# Altium footprint library Conectors.PcbLib: 137 footprints (part 3 of 9)
Each footprint in its own frame and in the unit in brackets; x right, y up, seen from the top. Pads: shape width x height; smd on the part's side, far side on the other; paste and mask are expansions set on the pad; w line width, h text height; cw(c..) or ccw(c..) is an arc to the next point about the centre after c.
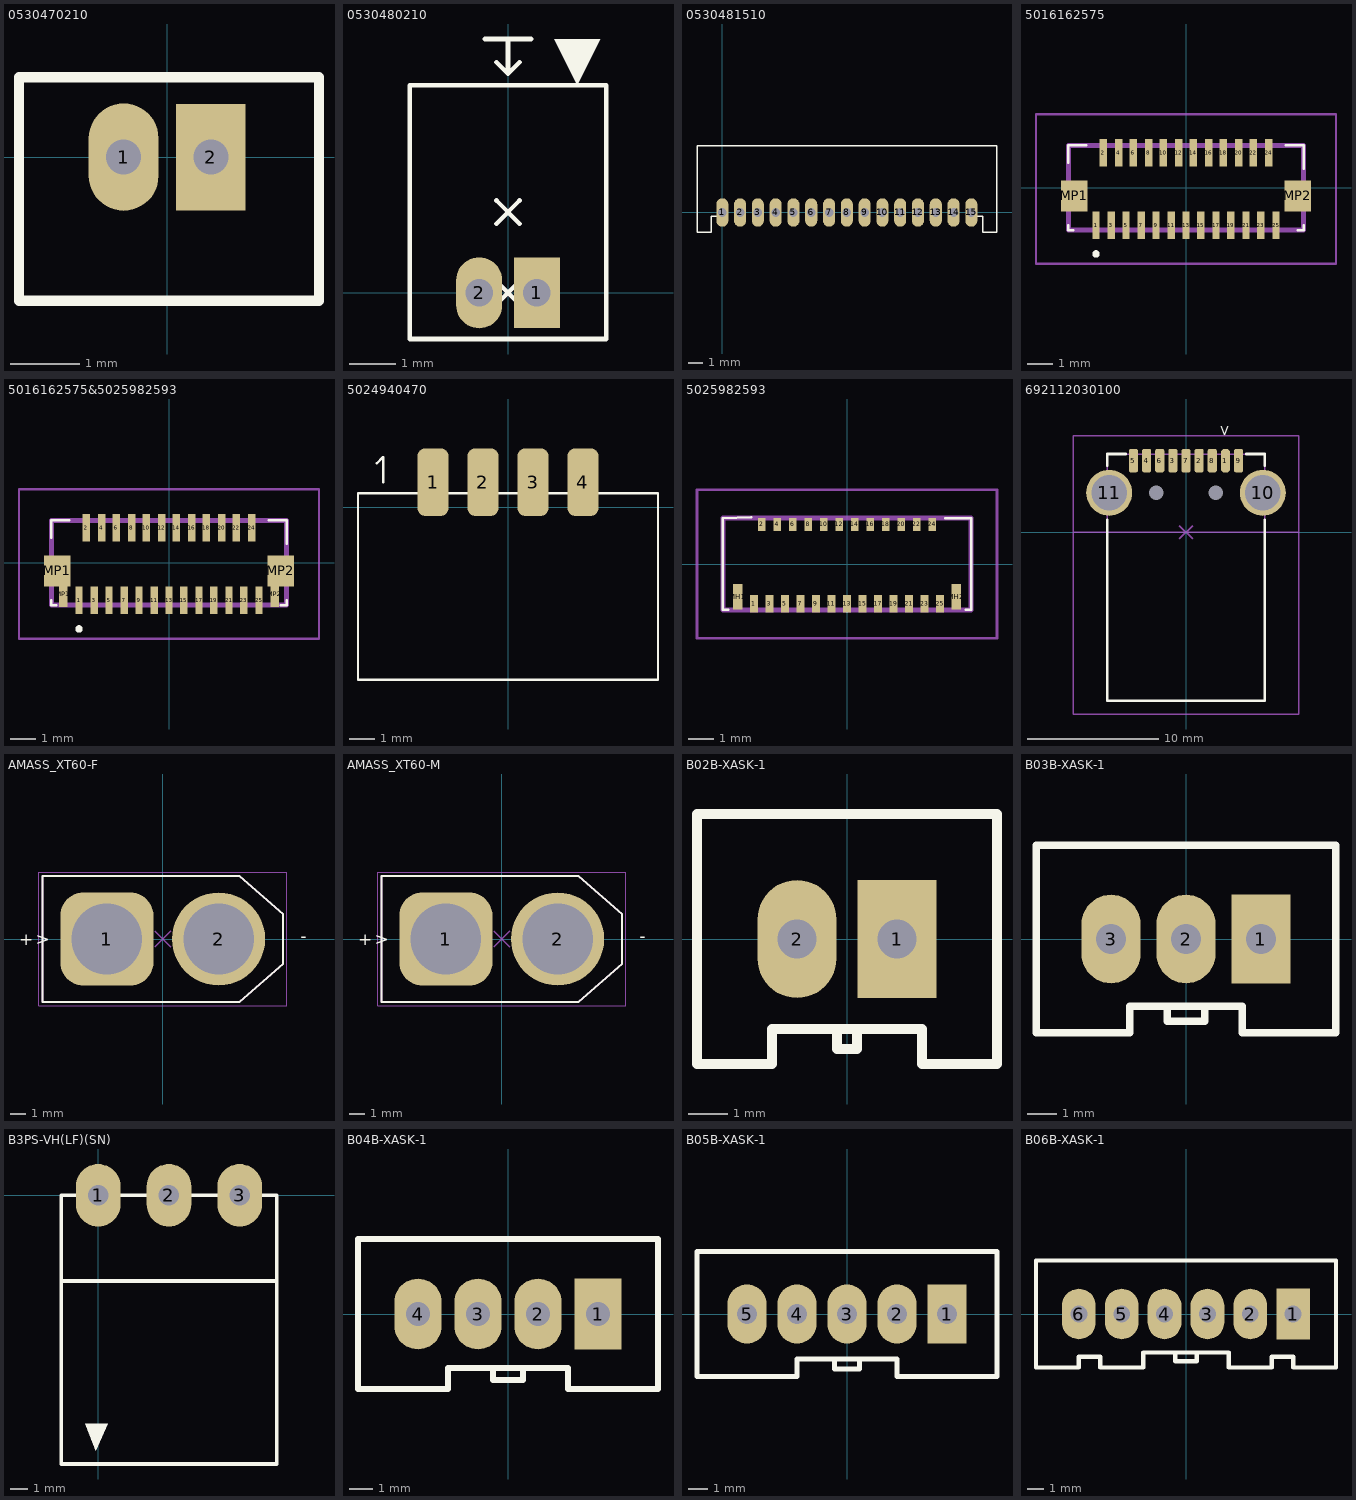
[diagram p2: the footprints below, top view; thin cyan lines are the x and y axes]

## 0530470210 [mm]
pads (2):
  oval 1x1.54 hole 0.5: 1(-0.625,0)
  rect 1x1.524 hole 0.5: 2(0.625,0)
Top Overlay:
  lines w0.15: -2.125,-2.057 -2.125,1.143 2.175,1.143 2.175,-2.057 -2.125,-2.057
3D body "530470210.stp": height 4.18, standoff -2.32, extent -2.099,-2.057 2.151,1.143

## 0530480210 [mm] "CONN HEADER R/A 2POS 1.25MM"
height 3.5
pads (2):
  rect 1x1.524 hole 0.6: 1(0.625,0)
  oval 1x1.54 hole 0.6: 2(-0.625,0)
Top Overlay:
  region: 1,5.5 2,5.5 1.5,4.5
  lines w0.1: -0.5,5.5 0.5,5.5 ; -0.25,-0.25 0.25,0.25 ; -0.25,0.25 0.25,-0.25 ; -0.25,1.5 0.25,2 ; -0.25,2 0.25,1.5 ; -0.25,5 0,4.75 ; 0,5.5 0,4.75 ; 0.25,5 0,4.75 ; -2.125,-1 -2.125,4.5 2.125,4.5 2.125,-1 -2.125,-1
3D body "530480210.stp": height 3.35, standoff -2.45, extent -2.125,-1.016 2.125,4.484

## 0530481510 [mm]
pads (15):
  oval 0.85x2 hole 0.6: 1(0,0) 2(1.25,0) 3(2.5,0) 4(3.75,0) 5(5,0) 6(6.25,0) 7(7.5,0) 8(8.75,0) 9(10,0) 10(11.25,0) 11(12.5,0) 12(13.75,0) 13(15,0) 14(16.25,0) 15(17.5,0)
Top Overlay:
  lines w0.1: -0.381,-0.254 -0.762,-0.254 -0.762,-1.397 -1.778,-1.397 -1.778,4.699 19.304,4.699 19.304,-1.397 18.288,-1.397 18.288,-0.254 17.907,-0.254
3D body "530481510.stp": height 3.6, standoff -2.2, extent -1.506,-1.106 18.994,4.394

## 5016162575 [mm]
pads (27):
  rect 0.3x1.1 smd: 1(-3.6,-1.5) 2(-3.3,1.4) 3(-3,-1.5) 4(-2.7,1.4) 5(-2.4,-1.5) 6(-2.1,1.4) 7(-1.8,-1.5) 8(-1.5,1.4) 9(-1.2,-1.5) 10(-0.9,1.4) 11(-0.6,-1.5) 12(-0.3,1.4) 13(0,-1.5) 14(0.3,1.4) 15(0.6,-1.5) 16(0.9,1.4) 17(1.2,-1.5) 18(1.5,1.4) 19(1.8,-1.5) 20(2.1,1.4) 21(2.4,-1.5) 22(2.7,1.4) 23(3,-1.5) 24(3.3,1.4) 25(3.6,-1.5)
  rect 1.05x1.25 smd: MP1(-4.475,-0.325) MP2(4.475,-0.325)
Top Overlay:
  lines w0.1: -4.7,-1.7 -4.5,-1.7 -4.7,-1.7 ; -4.7,-1.7 -4.7,-1.5 -4.7,-1.7 ; -4.7,1.7 -4.7,1 -4.7,1.7 ; -4.7,1.7 -4,1.7 -4.7,1.7 ; 4.7,-1.7 4.7,-1.5 4.7,-1.7 ; 4.7,-1.7 4.475,-1.7 4.7,-1.7 ; 4.7,1.7 4.7,0.75 4.7,1.7 ; 4.7,1.7 4,1.7 4.7,1.7
  lines w0.2: -3.6,-2.7 cw(c-3.6,-2.65) -3.6,-2.6 ; -3.6,-2.7 ccw(c-3.6,-2.65) -3.6,-2.6 ; -3.6,-2.7 cw(c-3.6,-2.65) -3.6,-2.6
Mechanical 13:
  lines w0.2: -4.7,-1.7 -4.7,1.7 4.7,1.7 4.7,-1.7 -4.7,-1.7
Mechanical 15:
  lines w0.1: -6,-3.05 -6,2.95 6,2.95 6,-3.05 -6,-3.05
3D body "5016162575.stp": height 1.92, standoff 0, extent -4.895,-2.02 4.895,1.92

## 5016162575&5025982593 [mm]
pads (29):
  rect 0.3x1.1 smd: 1(-3.6,-1.5) 2(-3.3,1.4) 3(-3,-1.5) 4(-2.7,1.4) 5(-2.4,-1.5) 6(-2.1,1.4) 7(-1.8,-1.5) 8(-1.5,1.4) 9(-1.2,-1.5) 10(-0.9,1.4) 11(-0.6,-1.5) 12(-0.3,1.4) 13(0,-1.5) 14(0.3,1.4) 15(0.6,-1.5) 16(0.9,1.4) 17(1.2,-1.5) 18(1.5,1.4) 19(1.8,-1.5) 20(2.1,1.4) 21(2.4,-1.5) 22(2.7,1.4) 23(3,-1.5) 24(3.3,1.4) 25(3.6,-1.5)
  rect 1.05x1.25 smd: MP1(-4.475,-0.325) MP2(4.475,-0.325)
  rect 0.35x1 smd: MP1(-4.225,-1.267) MP2(4.225,-1.267)
Top Overlay:
  lines w0.1: -4.7,-1.7 -4.7,-1.5 -4.7,-1.7 ; -4.7,-1.7 -4.5,-1.7 -4.7,-1.7 ; -4.7,1.7 -4,1.7 -4.7,1.7 ; -4.7,1.7 -4.7,1 -4.7,1.7 ; 4.7,-1.7 4.475,-1.7 4.7,-1.7 ; 4.7,-1.7 4.7,-1.5 4.7,-1.7 ; 4.7,1.7 4,1.7 4.7,1.7 ; 4.7,1.7 4.7,0.75 4.7,1.7
  lines w0.2: -3.6,-2.7 cw(c-3.6,-2.65) -3.6,-2.6 ; -3.6,-2.7 ccw(c-3.6,-2.65) -3.6,-2.6 ; -3.6,-2.7 cw(c-3.6,-2.65) -3.6,-2.6
Mechanical 13:
  lines w0.2: -4.7,-1.7 4.7,-1.7 4.7,1.7 -4.7,1.7 -4.7,-1.7
Mechanical 15:
  lines w0.1: -6,-3.05 6,-3.05 6,2.95 -6,2.95 -6,-3.05
3D body "5016162575.stp": height 1.92, standoff 0, extent -4.895,-2.02 4.895,1.92

## 5024940470 [mm]
pads (4):
  rrect50% 1.25x2.7 smd: 1(-3,1) 2(-1,1) 3(1,1) 4(3,1)
Top Overlay:
  lines w0.1: -5.25,1.75 -5,2 -5,1 ; -6,-6.9 6,-6.9 6,0.55 -6,0.55 -6,-6.9
3D body "5024940470.stp": height 6.8, standoff -0.1, extent -6,-6.925 6,1.575

## 5025982593 [mm]
pads (27):
  rect 0.3x0.67 smd: 1(-3.6,-1.532) 3(-3,-1.532) 5(-2.4,-1.532) 7(-1.8,-1.532) 9(-1.2,-1.532) 11(-0.6,-1.532) 13(0,-1.532) 15(0.6,-1.532) 17(1.2,-1.532) 19(1.8,-1.532) 21(2.4,-1.532) 23(3,-1.532) 25(3.6,-1.532)
  rect 0.3x0.5 smd: 2(-3.3,1.533) 4(-2.7,1.533) 6(-2.1,1.533) 8(-1.5,1.533) 10(-0.9,1.533) 12(-0.3,1.533) 14(0.3,1.533) 16(0.9,1.533) 18(1.5,1.533) 20(2.1,1.533) 22(2.7,1.533) 24(3.3,1.533)
  rect 0.35x1 smd: MH1(-4.225,-1.267) MH2(4.225,-1.267)
Top Overlay:
  lines w0.1: -4.6,-1.774 -4.8,-1.774 -4.8,1.776 -3.7,1.801 ; 3.8,1.776 4.8,1.776 4.8,-1.699 4.8,-1.774 4.6,-1.774
Mechanical 13:
  lines w0.2: -4.8,-1.774 4.8,-1.774 4.8,1.776 -4.8,1.776 -4.8,-1.774
Mechanical 15:
  lines w0.1: -5.8,-2.873 5.8,-2.873 5.8,2.873 -5.8,2.873 -5.8,-2.873
3D body "502598-2593.stp": height 1.15, standoff 0, extent -4.8,-1.905 4.8,1.895

## 692112030100 [mm]
pads (13):
  oct 0.7x1.8 smd: 1(3,5.45)
  rrect50% 0.7x1.8 smd: 2(1,5.45) 3(-1,5.45) 4(-3,5.45) 5(-4,5.45) 6(-2,5.45) 7(0,5.45) 8(2,5.45) 9(4,5.45)
  round 3.5 hole 2.69: 10(5.85,3) 11(-5.85,3)
  round 0.55 hole 1.1 unplated: 12(2.25,3) 13(-2.25,3)
Top Overlay:
  lines w0.2: -6,0.95 -6,-12.85 6,-12.85 6,0.95 ; -6,5.05 -6,5.95 -4.6,5.95 ; 4.6,5.95 6,5.95 6,5.05
  text ">" at 2.6,8.2 h0.8
  text ".Silk" at 3.167,9.927 h3
Mechanical 13:
  lines w0.1: -6,-12.85 6,-12.85 6,5.95 -6,5.95 -6,-12.85
Mechanical 15:
  lines w0.1: -0.5,-0.5 0.5,0.5 ; -0.5,0.5 0.5,-0.5 ; -8.6,7.35 8.6,7.35 ; -8.6,7.35 -8.6,-13.85 8.6,-13.85 8.6,7.35 ; -8.6,7.35 8.6,7.35 ; -8.6,7.35 -8.6,0 8.6,0 8.6,7.35
3D body "692112030100.stp": height 1.85, standoff -2.65, extent -6,-14.768 6,5.982

## AMASS_XT60-F [mm]
height 16
pads (2):
  rrect50% 6x6 / inner round 6 / far side rrect50% 6x6 hole 4.55: 1(-3.6,0)
  round 6 hole 4.55: 2(3.6,0)
Top Overlay:
  lines w0.127: -7.75,-4.05 4.95,-4.05 7.75,-1.6 7.75,1.6 4.95,4.05 -7.75,4.05 -7.75,-4.05
  text "-" at 9.267,0.4 h0.8
  text "+" at -9.267,-0.4 h0.8
  text ".Silk" at -2.167,4.573 h3
  text ">" at -8.2,-0.4 h0.8
Mechanical 13:
  lines w0.127: -7.75,-4.05 4.95,-4.05 7.75,-1.6 7.75,1.6 4.95,4.05 -7.75,4.05 -7.75,-4.05
Mechanical 15:
  lines w0.05: -8,-4.3 -8,4.3 8,4.3 8,-4.3 -8,-4.3
  lines w0.1: -0.5,-0.5 0.5,0.5 ; -0.5,0.5 0.5,-0.5
3D body "XT60-F--3DModel-STEP-510211.STEP": height 16.8, standoff -4.5, extent -8,-4.05 8,4.05

## AMASS_XT60-M [mm]
height 16
pads (2):
  rrect50% 6x6 / inner round 6 / far side rrect50% 6x6 hole 4.55: 1(-3.6,0)
  round 6 hole 4.55: 2(3.6,0)
Top Overlay:
  lines w0.127: -7.75,-4.05 -7.75,4.05 4.95,4.05 7.75,1.6 7.75,-1.6 4.95,-4.05 -7.75,-4.05
  text ">" at -8.2,-0.4 h0.8
  text ".Silk" at -2.167,4.573 h3
  text "+" at -9.267,-0.4 h0.8
  text "-" at 9.267,0.4 h0.8
Mechanical 13:
  lines w0.127: -7.75,-4.05 -7.75,4.05 4.95,4.05 7.75,1.6 7.75,-1.6 4.95,-4.05 -7.75,-4.05
Mechanical 15:
  lines w0.05: -8,-4.3 8,-4.3 8,4.3 -8,4.3 -8,-4.3
  lines w0.1: -0.5,-0.5 0.5,0.5 ; -0.5,0.5 0.5,-0.5
3D body "step_temp.STEP": height 16, standoff -4.5, extent -7.75,-4.05 7.75,4.05

## B02B-XASK-1 [mm] "CONN HEADER XA 2POS 2.5MM TIN"
height 11.3
pads (2):
  rect 2x3 hole 1: 1(1.27,0)
  oval 2x3 hole 1: 2(-1.27,0)
Top Overlay:
  lines w0.254: -0.254,-2.286 -0.254,-2.794 0,-2.794 0.254,-2.794 0.254,-2.286 ; -3.81,-3.175 -1.905,-3.175 -1.905,-2.286 1.905,-2.286 1.905,-3.175 3.81,-3.175 3.81,3.175 -3.81,3.175 -3.81,-3.175
3D body "User Library-B02B-XASK-1.step": height 8.8, standoff -3.4, extent -3.75,-3.2 3.75,3.2

## B03B-XASK-1 [mm] "CONN HEADER XA 3POS 2.5MM TIN"
height 11.3
pads (3):
  rect 2x3 hole 1: 1(2.54,0)
  oval 2x3 hole 1: 2(0,0) 3(-2.54,0)
Top Overlay:
  lines w0.254: -0.635,-2.286 -0.635,-2.794 0,-2.794 0.635,-2.794 0.635,-2.286 ; -5.08,-3.175 -1.905,-3.175 -1.905,-2.286 1.905,-2.286 1.905,-3.175 5.08,-3.175 5.08,3.175 -5.08,3.175 -5.08,-3.175
3D body "User Library-B03B-XASK-1-1.step": height 8.8, standoff -3.4, extent -5,-3.2 5,3.2

## B3PS-VH(LF)(SN) [mm]
pads (3):
  oval 2.5x3.5 hole 1.15: 1(0,0) 2(3.96,0) 3(7.92,0)
Top Overlay:
  region: 0.525,-12.8 -0.725,-12.8 -0.125,-14.3
  lines w0.2: -2.065,-14.96 -2.065,-4.8 10,-4.8 10,-14.96 ; -2.073,-15.04 9.992,-15.04 ; -2.073,-15.04 9.992,-15.04 ; -2.073,-15.04 -2.073,0 9.992,0 9.992,-15.04
3D body "User Library-B3PS-VH.STEP": height 8.65, standoff -3.75, extent -1.95,-14.9 9.87,0.57

## B04B-XASK-1 [mm] "CONN HEADER XA 4POS 2.5MM TIN"
height 11.3
pads (4):
  rect 2x3 hole 1: 1(3.81,0)
  oval 2x3 hole 1: 2(1.27,0) 3(-1.27,0) 4(-3.81,0)
Top Overlay:
  lines w0.254: -0.635,-2.286 -0.635,-2.794 0,-2.794 0.635,-2.794 0.635,-2.286 ; -6.35,-3.175 -2.54,-3.175 -2.54,-2.286 2.54,-2.286 2.54,-3.175 6.35,-3.175 6.35,3.175 -6.35,3.175 -6.35,-3.175
3D body "User Library-B04B-XASK-1-1.step": height 8.8, standoff -3.4, extent -6.25,-3.2 6.25,3.2

## B05B-XASK-1 [mm] "CONN HEADER XA 5POS 2.5MM TIN"
height 11.3
pads (5):
  rect 2x3 hole 1: 1(5.08,0)
  oval 2x3 hole 1: 2(2.54,0) 3(0,0) 4(-2.54,0) 5(-5.08,0)
Top Overlay:
  lines w0.254: -0.635,-2.286 -0.635,-2.794 0,-2.794 0.635,-2.794 0.635,-2.286 ; -7.62,-3.175 -7.62,3.175 7.62,3.175 7.62,-3.175 2.54,-3.175 2.54,-2.286 -2.54,-2.286 -2.54,-3.175 -7.62,-3.175
3D body "User Library-B05B-XASK-1-1.step": height 8.8, standoff -3.4, extent -7.5,-3.2 7.5,3.2

## B06B-XASK-1 [mm] "CONN HEADER XA 6POS 2.5MM TIN"
height 11.3
pads (6):
  rect 2x3 hole 1: 1(6.35,0)
  oval 2x3 hole 1: 2(3.81,0) 3(1.27,0) 4(-1.27,0) 5(-3.81,0) 6(-6.35,0)
Top Overlay:
  lines w0.254: -0.635,-2.286 -0.635,-2.794 0,-2.794 0.635,-2.794 0.635,-2.286 ; -8.89,-3.175 -6.35,-3.175 -6.35,-2.54 -5.08,-2.54 -5.08,-3.175 -2.54,-3.175 -2.54,-2.286 2.54,-2.286 2.54,-3.175 5.08,-3.175 5.08,-2.54 6.35,-2.54 6.35,-3.175 8.89,-3.175 8.89,3.175 -8.89,3.175 -8.89,-3.175
3D body "User Library-B06B-XASK-1-1.step": height 8.8, standoff -3.4, extent -8.75,-3.2 8.75,3.2